# EAGLE library part MS5534 (library custom)
IC Pressure Sensor
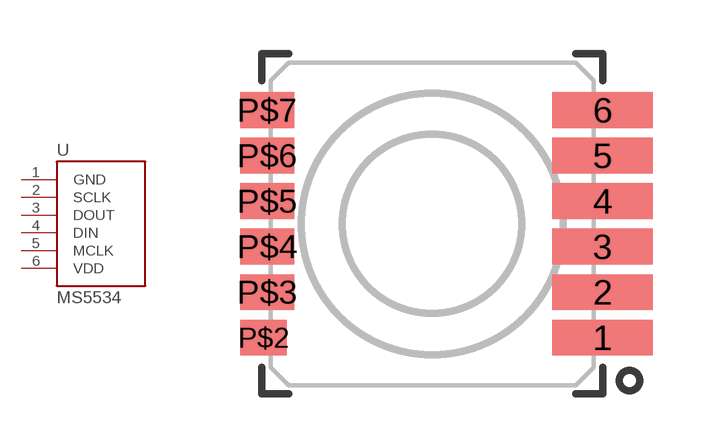
[diagram p29: symbol with the pads of MS5534_SMD_NP; footprint MS5534_SMD_NP]

Designator prefix -

## MS5534  [MS5534_SMD_NP]
1  GND  pwr
2  SCLK  in
3  DOUT  out
4  DIN  in
5  MCLK  in
6  VDD  pwr

## Footprint MS5534_SMD_NP (pad centres in mm)
smd 2.8 x 1: 1 4.75,-3.175; 2 4.75,-1.905; 3 4.75,-0.635; 4 4.75,0.635; 5 4.75,1.905; 6 4.75,3.175
smd 1.3 x 1: P$2 -4.7,-3.175
smd 1.5 x 1: P$3 -4.6,-1.905; P$4 -4.6,-0.635; P$5 -4.6,0.635; P$6 -4.6,1.905; P$7 -4.6,3.175